# EAGLE library part UART-CH340 (library ds_ic_peripherals)
USB to serial chip
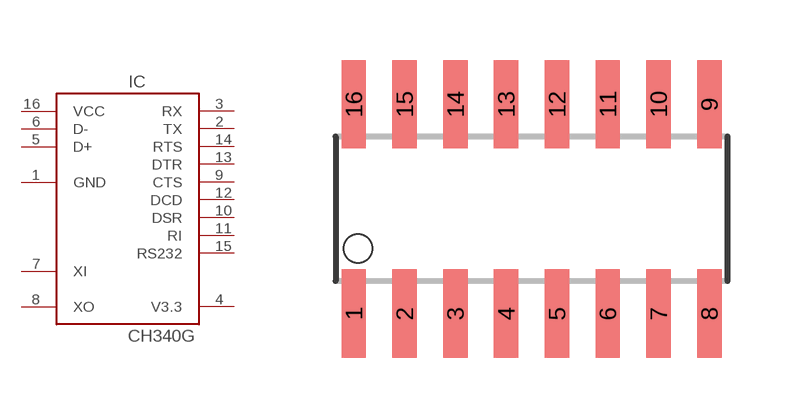
[diagram p42: symbol with the pads of SO16; footprint SO16]

Designator prefix IC

## UART-CH340G  [SO16]
1  GND
2  TX
3  RX
4  V3.3
5  D+
6  D-
7  XI
8  XO
9  CTS
10  DSR
11  RI
12  DCD
13  DTR
14  RTS
15  RS232
16  VCC

## Footprint SO16 (pad centres in mm)
smd 0.61 x 2.21: 1 -4.445,-2.616; 2 -3.175,-2.616; 3 -1.905,-2.616; 4 -0.635,-2.616; 5 0.635,-2.616; 6 1.905,-2.616; 7 3.175,-2.616; 8 4.445,-2.616; 9 4.445,2.616; 10 3.175,2.616; 11 1.905,2.616; 12 0.635,2.616; 13 -0.635,2.616; 14 -1.905,2.616; 15 -3.175,2.616; 16 -4.445,2.616